# EAGLE library part AD8210 (library NEWPARTS)
High Voltage, Bidirectional Current Shunt Monitor
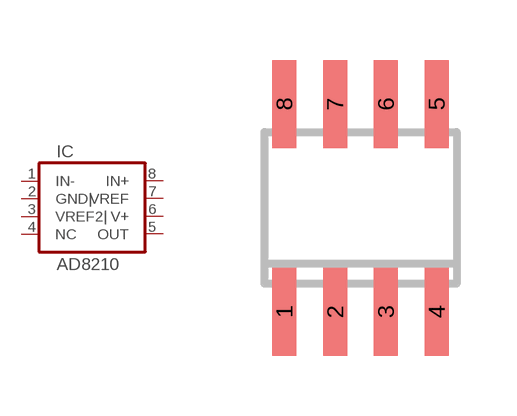
[diagram p1: symbol with the pads of SO08; footprint SO08]

Designator prefix IC

## AD8210D  [SO08]
1  IN-  in
2  GND|  in
3  VREF2|  in
4  NC  pwr
5  OUT  pwr
6  V+  in
7  VREF  in
8  IN+  out

## Footprint SO08 (pad centres in mm)
Small Outline Package 8 NS Package M08A
smd 0.6 x 2.2: 1 -1.905,-2.6; 2 -0.635,-2.6; 3 0.635,-2.6; 4 1.905,-2.6; 5 1.905,2.6; 6 0.635,2.6; 7 -0.635,2.6; 8 -1.905,2.6